# Altium footprint library TSW-111-07-G-D.PcbLib: 1 footprints
Each footprint in its own frame and in the unit in brackets; x right, y up, seen from the top. Pads: shape width x height; smd on the part's side, far side on the other; paste and mask are expansions set on the pad; w line width, h text height; cw(c..) or ccw(c..) is an arc to the next point about the centre after c.
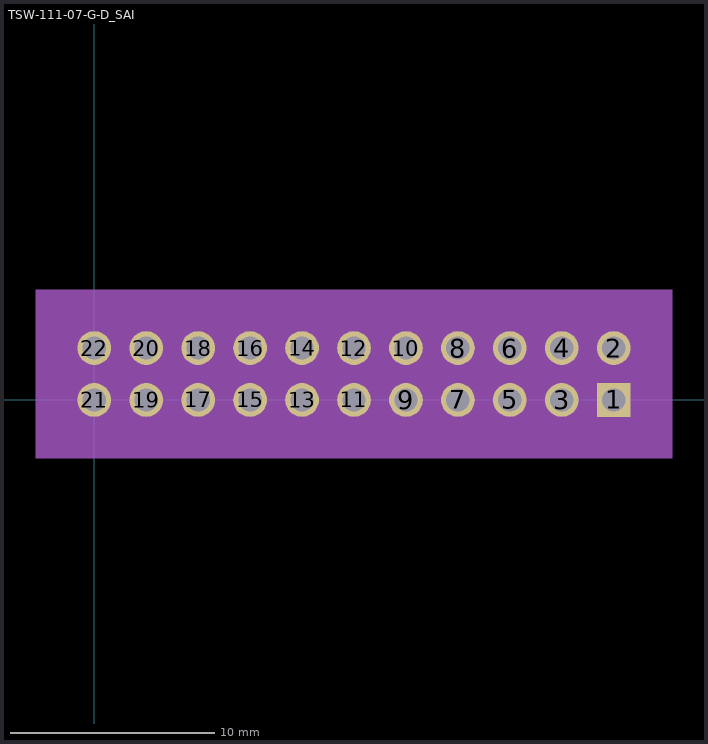
[diagram p0: the footprint, top view; thin cyan lines are the x and y axes]

## TSW-111-07-G-D_SAI [mil]
pads (22):
  rect 65x65 hole 45 mask+0: 1(1000,0)
  round 65 hole 45 mask+0: 2(1000,100) 3(900,0) 4(900,100) 5(800,0) 6(800,100) 7(700,0) 8(700,100) 9(600,0) 10(600,100) 11(500,0) 12(500,100) 13(400,0) 14(400,100) 15(300,0) 16(300,100) 17(200,0) 18(200,100) 19(100,0) 20(100,100) 21(0,0) 22(0,100)
Bottom Overlay:
  circle w20: c1000,-83 r10
  lines w6: -55,-55 -55,155 1055,155 1055,-55 -55,-55
Mechanical 5:
  region: -112.5,-112.5 1112.5,-112.5 1112.5,212.5 -112.5,212.5
Mechanical 13:
  circle w0: c1000,-35 r10
  lines w1: -50,-50 1050,-50 1050,150 -50,150 -50,-50
Mechanical 15:
  region: -60,160 1060,160 1060,-60 -60,-60
  lines w6: -60,-60 1060,-60 1060,160 -60,160 -60,-60
3D body "TSW-111-07-G-D_SAI.step": height 330, standoff -200, extent -55,-50 1045,150